# Altium schematic symbol library TLV61070ADBVR.SchLib: 1 symbol
Pins are listed as number, name and electrical type; pins without a type are passive.

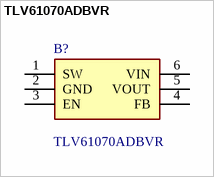
[diagram p0: symbol TLV61070ADBVR]

## TLV61070ADBVR
designator B?
Switching Voltage Regulators; Manufacturer_Name: Texas Instruments; Geometry.Height: 1.45mm; Mouser Part Number: 595-TLV61070ADBVR; Mouser Price/Stock: https://www.mouser.co.uk/ProductDetail/Texas-Instruments/TLV61070ADBVR?qs=T%252BzbugeAwjhLlT1empixsw%3D%3D; Manufacturer_Part_Number: TLV61070ADBVR; Datasheet Link: *
footprint SOT95P280X145-6N
pins: 1 SW, 2 GND, 3 EN, 4 FB, 5 VOUT, 6 VIN